# Altium footprint library Base Board.PcbLib: 37 footprints (part 3 of 3)
Each footprint in its own frame and in the unit in brackets; x right, y up, seen from the top. Pads: shape width x height; smd on the part's side, far side on the other; paste and mask are expansions set on the pad; w line width, h text height; cw(c..) or ccw(c..) is an arc to the next point about the centre after c.
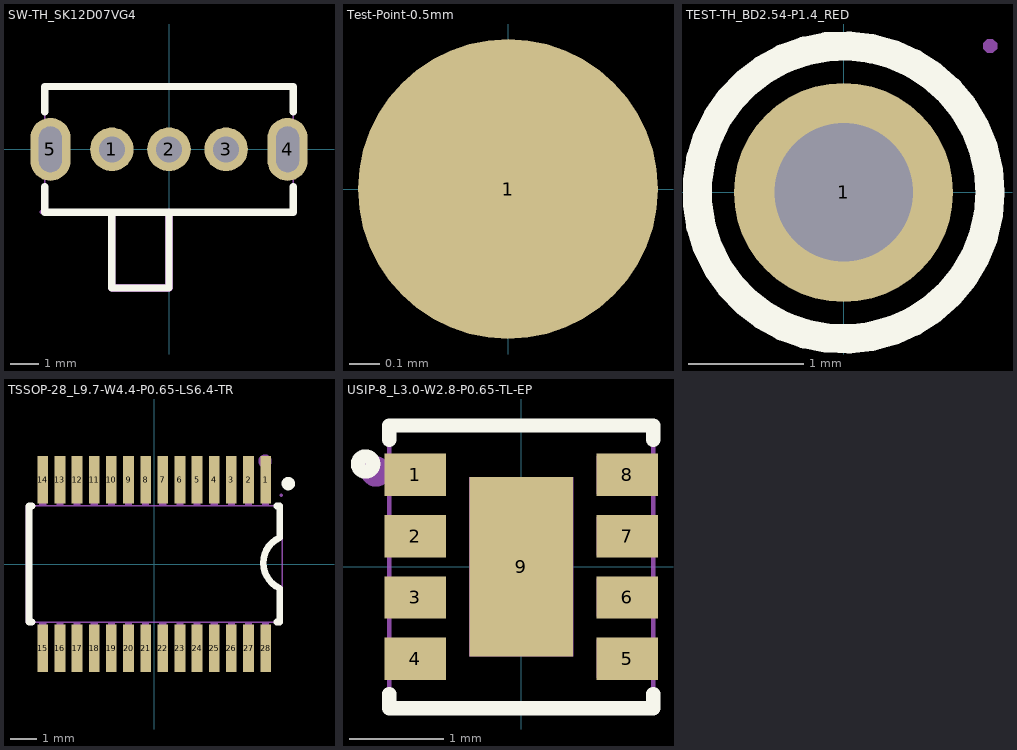
[diagram p2: the footprints below, top view; thin cyan lines are the x and y axes]

## SW-TH_SK12D07VG4 [mil]
pads (5):
  round 60 hole 36 paste-99999 mask+1.97: 1(-78.74,0) 2(0,0) 3(78.74,0)
  oval 55.12x86.61 hole 31.5 slot 62.99 at 90 deg paste-99999 mask+1.97: 4(163.38,0) 5(-163.39,0)
Top Overlay:
  lines w10: -171.26,86.61 171.26,86.61 171.26,51.55 ; -171.22,-51.56 -171.22,-86.57 171.3,-86.57 ; -171.22,51.56 -171.22,86.61 ; -78.97,-86.57 -78.97,-190.94 0,-190.94 0,-86.57 ; 171.26,-86.57 171.26,-51.55
Mechanical 6:
  region: 5,-190.94 5,-191.94 4.24,-193.78 2.83,-195.18 0.99,-195.94 0,-195.94 -78.74,-195.94 -79.73,-195.94 -81.57,-195.18 -82.98,-193.78 -83.74,-191.94 -83.74,-190.94 -83.74,-88.58 -83.74,-87.59 -82.98,-85.75 -81.57,-84.34 -79.73,-83.58 -78.74,-83.58 -77.75,-83.58 -75.91,-84.34 -74.5,-85.75 -73.74,-87.59 -73.74,-88.58 -73.74,-185.94 -5,-185.94 -5,-86.61 -5,-85.62 -4.24,-83.78 -2.83,-82.38 -0.99,-81.61 0,-81.61 0.99,-81.61 2.83,-82.38 4.24,-83.78 5,-85.62 5,-86.61
Mechanical 15:
  region: -88.58,4.92 -68.9,4.92 -68.9,-4.92 -88.58,-4.92
  region: -9.84,4.92 9.84,4.92 9.84,-4.92 -9.84,-4.92
  region: 68.9,4.92 88.58,4.92 88.58,-4.92 68.9,-4.92
  region: -175.99,-15.75 -175.99,15.75 -150.79,15.75 -150.79,-15.75
  region: 150.78,-15.75 150.78,15.75 175.98,15.75 175.98,-15.75
  region: -173.63,-86.61 -173.63,-87.59 -175.01,-88.98 -176.97,-88.98 -178.35,-87.59 -178.35,-86.61 -178.35,-85.64 -176.97,-84.25 -175.01,-84.25 -173.63,-85.64 -173.63,-86.61
  lines w2: -171.26,-86.61 171.26,-86.61 171.26,86.61 -171.26,86.61 -171.26,-86.61

## Test-Point-0.5mm [mm]
pads (1):
  round 1 smd: 1(0,0)

## TEST-TH_BD2.54-P1.4_RED [mm]
pads (1):
  round 1.9 hole 1.2: 1(0,0)
Top Overlay:
  circle w0.254: c0,0 r1.27
Mechanical 15:
  region: 1.33,1.27 1.33,1.245 1.295,1.21 1.245,1.21 1.21,1.245 1.21,1.27 1.21,1.295 1.245,1.33 1.295,1.33 1.33,1.295 1.33,1.27
  region: -0.695,0.25 0.695,0.25 0.695,-0.25 -0.695,-0.25
  lines w0.051: -1.27,0 cw(c0,0) 1.27,0 cw(c0,0) -1.27,0

## TSSOP-28_L9.7-W4.4-P0.65-LS6.4-TR [mil]
pads (28):
  rect 16x71 smd paste+0 mask+2: 1(166.34,125.99) 2(140.75,125.99) 3(115.16,125.99) 4(89.57,125.99) 5(63.98,125.99) 6(38.39,125.99) 7(12.8,125.99) 8(-12.79,125.99) 9(-38.38,125.99) 10(-63.97,125.99) 11(-89.56,125.99) 12(-115.15,125.99) 13(-140.74,125.99) 14(-166.34,125.99) 15(-166.34,-125.98) 16(-140.75,-125.98) 17(-115.16,-125.98) 18(-89.57,-125.98) 19(-63.98,-125.98) 20(-38.38,-125.98) 21(-12.79,-125.98) 22(12.8,-125.98) 23(38.39,-125.98) 24(63.98,-125.98) 25(89.57,-125.98) 26(115.16,-125.98) 27(140.75,-125.98) 28(166.34,-125.98)
Top Overlay:
  circle w10: c200.16,120 r5
  lines w10: -182.56,-86.61 -186.85,-86.61 -186.85,86.61 -182.56,86.61 ; 182.88,-86.61 187.17,-86.61 187.17,-39.37 ; 182.88,86.61 187.17,86.61 187.17,39.37 ccw(c204.44,1.59) 187.32,-36.25
Mechanical 6:
  circle w10: c165.36,153.55 r5
Mechanical 15:
  drawing of 61 lines, arcs and shapes, not listed

## USIP-8_L3.0-W2.8-P0.65-TL-EP [mm]
pads (9):
  rect 0.65x0.45 smd: 1(-1.125,0.975) 2(-1.125,0.325) 3(-1.125,-0.325) 4(-1.125,-0.975) 5(1.125,-0.975) 6(1.125,-0.325) 7(1.125,0.325) 8(1.125,0.975)
  rect 1.1x1.9 smd: 9(0,0)
Top Overlay:
  circle w0.15: c-1.65,1.09 r0.081
  lines w0.15: -1.4,-1.347 -1.4,-1.5 1.4,-1.5 1.4,-1.347 ; -1.4,1.347 -1.4,1.5 1.4,1.5 1.4,1.347
Mechanical 6:
  circle w0.16: c-1.54,1.01 r0.08
Mechanical 15:
  region: -1.3,1.175 -0.8,1.175 -0.8,0.775 -1.3,0.775
  region: -1.3,0.525 -0.8,0.525 -0.8,0.125 -1.3,0.125
  region: -1.3,-0.125 -0.8,-0.125 -0.8,-0.525 -1.3,-0.525
  region: -1.3,-0.775 -0.8,-0.775 -0.8,-1.175 -1.3,-1.175
  region: 0.8,0.525 1.3,0.525 1.3,0.125 0.8,0.125
  region: 0.8,1.175 1.3,1.175 1.3,0.775 0.8,0.775
  region: 0.8,-0.775 1.3,-0.775 1.3,-1.175 0.8,-1.175
  region: 0.8,-0.125 1.3,-0.125 1.3,-0.525 0.8,-0.525
  region: -0.55,-0.95 -0.55,0.95 0.55,0.95 0.55,-0.95
  region: -1.46,1.5 -1.46,1.525 -1.425,1.56 -1.375,1.56 -1.34,1.525 -1.34,1.5 -1.34,1.475 -1.375,1.44 -1.425,1.44 -1.46,1.475 -1.46,1.5
  lines w0.051: -1.4,-1.5 -1.4,1.5 1.4,1.5 1.4,-1.5 -1.4,-1.5